# Altium footprint library 2.45-ECM-XF.PcbLib: 58 footprints (part 1 of 4)
Each footprint in its own frame and in the unit in brackets; x right, y up, seen from the top. Pads: shape width x height; smd on the part's side, far side on the other; paste and mask are expansions set on the pad; w line width, h text height; cw(c..) or ccw(c..) is an arc to the next point about the centre after c.
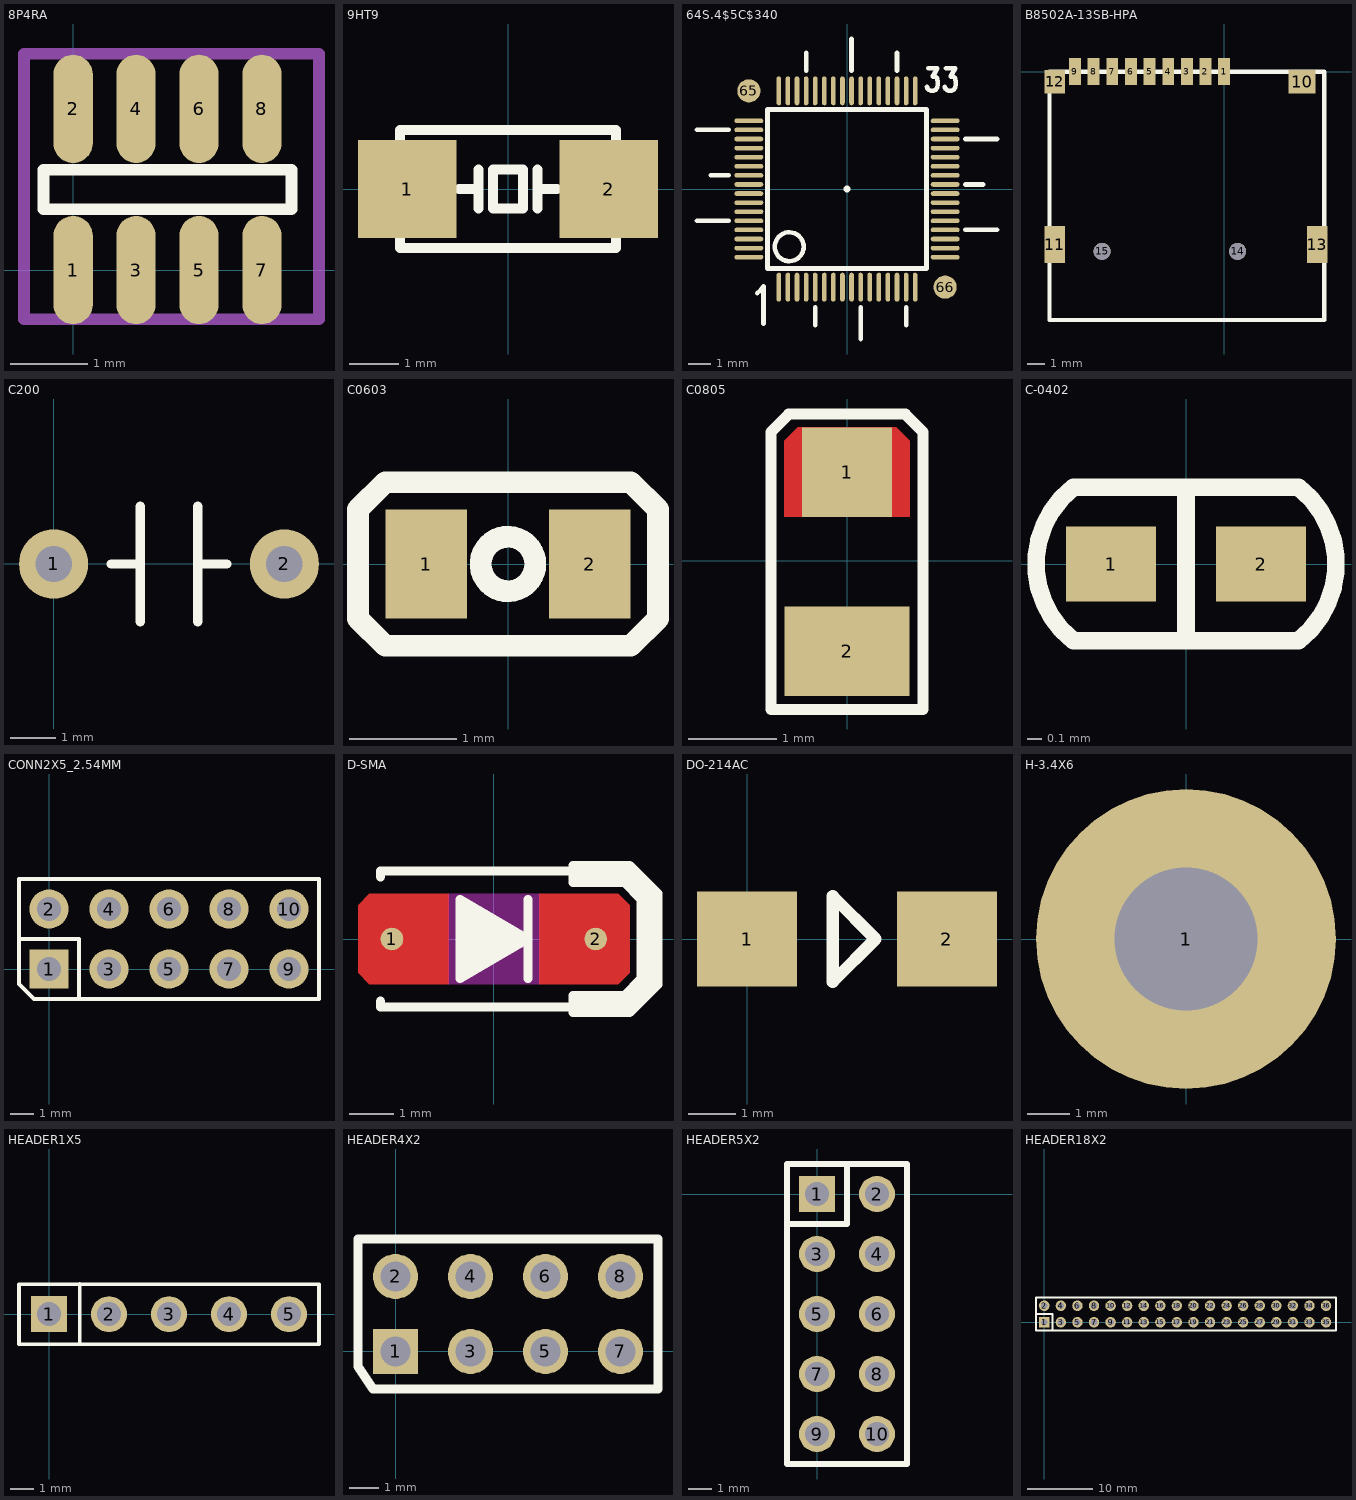
[diagram p0: the footprints below, top view; thin cyan lines are the x and y axes]

## 8P4RA [mil]
pads (8):
  oval 20x55 smd: 1(0,0) 2(0,82) 3(32,0) 4(32,82) 5(64,0) 6(64,82) 7(96,0) 8(96,82)
Top Overlay:
  lines w6: -15,31 -15,51 111,51 111,31 -15,31
Mechanical116:
  lines w6: -25,-25 -25,110 125,110 125,-25 -25,-25

## 9HT9 [mm]
pads (2):
  rrect0% 2x2 smd: 1(-2.05,0) 2(2.05,0)
Top Overlay:
  lines w0.203: -1,0 -0.6,0 ; -0.6,-0.4 -0.6,0.4 ; 0.6,-0.4 0.6,0.4 ; 0.6,0 1,0 ; -2.2,-1.2 -2.2,1.2 2.2,1.2 2.2,-1.2 -2.2,-1.2 ; -0.3,-0.4 0.3,-0.4 0.3,0.4 -0.3,0.4 -0.3,-0.4

## 64S.4$5C$340 [mil]
pads (66):
  oval 8x50 smd: 1(-118.11,-170) 2(-102.36,-170) 3(-86.61,-170) 4(-70.87,-170) 5(-55.12,-170) 6(-39.37,-170) 7(-23.62,-170) 8(-7.87,-170) 9(7.87,-170) 10(23.62,-170) 11(39.37,-170) 12(55.12,-170) 13(70.87,-170) 14(86.61,-170) 15(102.36,-170) 16(118.11,-170) 33(118.11,170) 34(102.36,170) 35(86.61,170) 36(70.87,170) 37(55.12,170) 38(39.37,170) 39(23.62,170) 40(7.87,170) 41(-7.87,170) 42(-23.62,170) 43(-39.37,170) 44(-55.12,170) 45(-70.87,170) 46(-86.61,170) 47(-102.36,170) 48(-118.11,170)
  oval 50x8 smd: 17(170,-118.11) 18(170,-102.36) 19(170,-86.61) 20(170,-70.87) 21(170,-55.12) 22(170,-39.37) 23(170,-23.62) 24(170,-7.87) 25(170,7.87) 26(170,23.62) 27(170,39.37) 28(170,55.12) 29(170,70.87) 30(170,86.61) 31(170,102.36) 32(170,118.11) 49(-170,118.11) 50(-170,102.36) 51(-170,86.61) 52(-170,70.87) 53(-170,55.12) 54(-170,39.37) 55(-170,23.62) 56(-170,7.87) 57(-170,-7.87) 58(-170,-23.62) 59(-170,-39.37) 60(-170,-55.12) 61(-170,-70.87) 62(-170,-86.61) 63(-170,-102.36) 64(-170,-118.11)
  round 40 smd mask+10: 65(-170,170) 66(170,-170)
Top Overlay:
  circle w8: c-100,-100 r25
  circle w8: c0,0 r2
  lines w8: -259.84,-55.12 -204.72,-55.12 ; -259.84,102.36 -204.72,102.36 ; -236.22,23.62 -204.72,23.62 ; -155.63,-180.5 -150.63,-176.5 -144.63,-168.5 -144.63,-233.5 ; -70.87,204.72 -70.87,236.22 ; -55.12,-236.22 -55.12,-204.72 ; 7.87,204.72 7.87,259.84 ; 23.62,-259.84 23.62,-204.72 ; 86.61,204.72 86.61,236.22 ; 102.36,-236.22 102.36,-204.72 ; 138.5,176.88 139.5,173.88 141.5,171.88 145.5,169.88 149.5,169.88 153.5,171.88 156.5,175.88 157.5,180.88 157.5,184.88 156.5,190.88 155.5,192.88 152.5,194.88 148.5,194.88 156.5,208.88 140.5,208.88 ; 169.5,176.88 170.5,173.88 172.5,171.88 176.5,169.88 180.5,169.88 184.5,171.88 187.5,175.88 188.5,180.88 188.5,184.88 187.5,190.88 186.5,192.88 183.5,194.88 179.5,194.88 187.5,208.88 171.5,208.88 ; 204.72,-70.87 259.84,-70.87 ; 204.72,7.87 236.22,7.87 ; 204.72,86.61 259.84,86.61 ; -137.8,-137.8 137.8,-137.8 137.8,137.8 -137.8,137.8 -137.8,-137.8

## B8502A-13SB-HPA [mm]
pads (15):
  rect 0.7x1.6 smd: 1(0,0) 2(-1.1,0) 3(-2.2,0) 4(-3.3,0) 5(-4.4,0) 6(-5.5,0) 7(-6.6,0) 8(-7.7,0) 9(-8.8,0)
  rect 1.6x1.4 smd: 10(4.6,-0.6)
  rect 1.2x2.2 smd: 11(-10,-10.2) 13(5.5,-10.2)
  rect 1.2x1.4 smd: 12(-10,-0.6)
  round 1 hole 1 unplated: 14(0.8,-10.6) 15(-7.2,-10.6)
Top Overlay:
  lines w0.254: -10.3,-14.65 -10.3,0 5.9,0 5.9,-14.65 -10.3,-14.65

## C200 [mil]
pads (2):
  round 60 hole 31.5: 1(0,0) 2(200,0)
Top Overlay:
  lines w8: 50,0 75,0 ; 75,-50 75,50 ; 125,-50 125,50 ; 125,0 150,0

## C0603 [mil]
pads (2):
  rect 30x40 smd: 1(-30,0) 2(30,0)
Top Overlay:
  circle w8: c0,0 r10
  lines w8: -55,-20 -45,-30 45,-30 55,-20 55,20 45,30 -45,30 -55,20 -55,-20

## C0805 [mil]
pads (2):
  rect 40x40 smd: 1(-0.2,39.53)
  rect 56x40 smd: 2(-0.2,-40.47)
Top Layer:
  region: 27.8,19.53 27.8,53.53 21.8,59.53 -22.2,59.53 -28.2,53.53 -28.2,19.53
Top Overlay:
  lines w5: -34.2,-66.47 33.8,-66.47 33.8,57.53 25.8,65.53 -26.2,65.53 -34.2,57.53 -34.2,-66.47

## C-0402 [mil]
pads (2):
  rect 24x20 smd: 1(-20,0) 2(20,0)
Top Overlay:
  lines w4.72: -30,20.47 30,20.47 cw(c14.04,0) 29.99,-20.48 ; -29.99,20.48 ccw(c-14.04,0) -30.02,-20.45 30,-20.47 ; 0,-20 0,20

## CONN2X5_2.54MM [mil]
pads (10):
  rect 65x65 / inner round 65 / far side rect 65x65 hole 40: 1(0,0)
  round 65 hole 40: 2(0,100) 3(100,0) 4(100,100) 5(200,0) 6(200,100) 7(300,0) 8(300,100) 9(400,0) 10(400,100)
Top Overlay:
  lines w6: -50,50 50,50 50,-50 ; -50,-25 -25,-50 450,-50 450,150 -50,150 -50,-25

## D-SMA [mil]
pads (2):
  round 20 smd: 1(-90,0) 2(90,0)
Top Layer:
  region: -110,40 -120,30 -120,-30 -110,-40 -40,-40 -40,40
  region: 120,30 110,40 40,40 40,-40 110,-40 120,-30
Top Layer keep-out:
  region: -40,40 -40,-40 40,-40 40,40
Top Overlay:
  lines w8: -100,-55 -100,-60 100,-60 ; -100,55 -100,60 100,60 ; -10,0 0,0 ; 30,-35 30,0 ; 30,35 30,0 ; 70,-60 70,-65 120,-65 145,-40 145,40 120,65 70,65 70,60 ; 0,0 10,0 ; 0,0 -15,-5 -15,5 0,0 ; 10,0 20,0 ; 10,0 -20,-15 -20,15 10,0 ; 20,0 -25,-25 -25,25 20,0 ; 30,0 -30,-35 -30,35 30,0 ; 100,-60 100,-50 ; 100,-60 120,-60 140,-40 140,40 120,60 100,60 ; 100,-60 100,-55 ; 100,-55 70,-55 70,-50 100,-50 ; 100,-55 115,-55 135,-35 135,35 115,55 100,55 ; 100,-50 115,-50 130,-35 130,35 115,50 100,50 ; 100,50 70,50 70,55 100,55 ; 100,50 100,60 ; 100,50 100,55
Top Paste:
  region: -110,40 -120,30 -120,-30 -110,-40 -40,-40 -40,40
  region: 120,30 110,40 40,40 40,-40 110,-40 120,-30
Top Solder:
  region: -110,40 -120,30 -120,-30 -110,-40 -40,-40 -40,40
  region: 120,30 110,40 40,40 40,-40 110,-40 120,-30

## DO-214AC [mm]
pads (2):
  rect 2.1x2 smd: 1(0,0) 2(4.2,0)
Top Overlay:
  lines w0.254: 1.8,-0.9 1.8,0.9 2.7,0 1.8,-0.9

## H-3.4X6 [mil]
pads (1):
  round 280 hole 133.86: 1(0,0)

## HEADER1X5 [mil]
pads (5):
  rect 60x60 / inner round 60 / far side rect 60x60 hole 40: 1(0,0)
  round 60 hole 40: 2(100,0) 3(200,0) 4(300,0) 5(400,0)
Top Overlay:
  lines w6: 51.57,-49.21 51.57,50.79 ; -50,-50 -50,50 450,50 450,-50 -50,-50

## HEADER4X2 [mil]
pads (8):
  rect 60x60 / inner round 60 / far side rect 60x60 hole 40: 1(0,0)
  round 60 hole 40: 2(0,100) 3(100,0) 4(100,100) 5(200,0) 6(200,100) 7(300,0) 8(300,100)
Top Overlay:
  lines w12: -50,-20 -30,-50 350,-50 350,150 -50,150 -50,-20

## HEADER5X2 [mil]
pads (10):
  rect 60x60 / inner round 60 / far side rect 60x60 hole 40: 1(0,0)
  round 60 hole 40: 2(100,0) 3(0,-100) 4(100,-100) 5(0,-200) 6(100,-200) 7(0,-300) 8(100,-300) 9(0,-400) 10(100,-400)
Top Overlay:
  lines w10: -50,50 150,50 150,-450 -50,-450 -50,50 ; -50,50 50,50 50,-50 -50,-50 -50,50

## HEADER18X2 [mm]
pads (36):
  rect 1.6x1.6 / inner round 1.6 / far side rect 1.6x1.6 hole 1: 1(0,0)
  round 1.6 hole 1: 2(0,2.54) 3(2.54,0) 4(2.54,2.54) 5(5.08,0) 6(5.08,2.54) 7(7.62,0) 8(7.62,2.54) 9(10.16,0) 10(10.16,2.54) 11(12.7,0) 12(12.7,2.54) 13(15.24,0) 14(15.24,2.54) 15(17.78,0) 16(17.78,2.54) 17(20.32,0) 18(20.32,2.54) 19(22.86,0) 20(22.86,2.54) 21(25.4,0) 22(25.4,2.54) 23(27.94,0) 24(27.94,2.54) 25(30.48,0) 26(30.48,2.54) 27(33.02,0) 28(33.02,2.54) 29(35.56,0) 30(35.56,2.54) 31(38.1,0) 32(38.1,2.54) 33(40.64,0) 34(40.64,2.54) 35(43.18,0) 36(43.18,2.54)
Top Overlay:
  lines w0.254: -1.27,-1.27 1.27,-1.27 1.27,1.27 -1.27,1.27 -1.27,-1.27 ; -1.27,-1.27 44.704,-1.27 44.704,3.81 -1.27,3.81 -1.27,-1.27